# EAGLE library part DX07S024XJ1R1100 (library MCU_Print_V2)
USB connector HYBRID, SMD/THRU hole STD MNT, USB type C, Receptacle, female, 24 Contact, JAE Electronics, Mouser : 656-DX07S024SJ1R1100
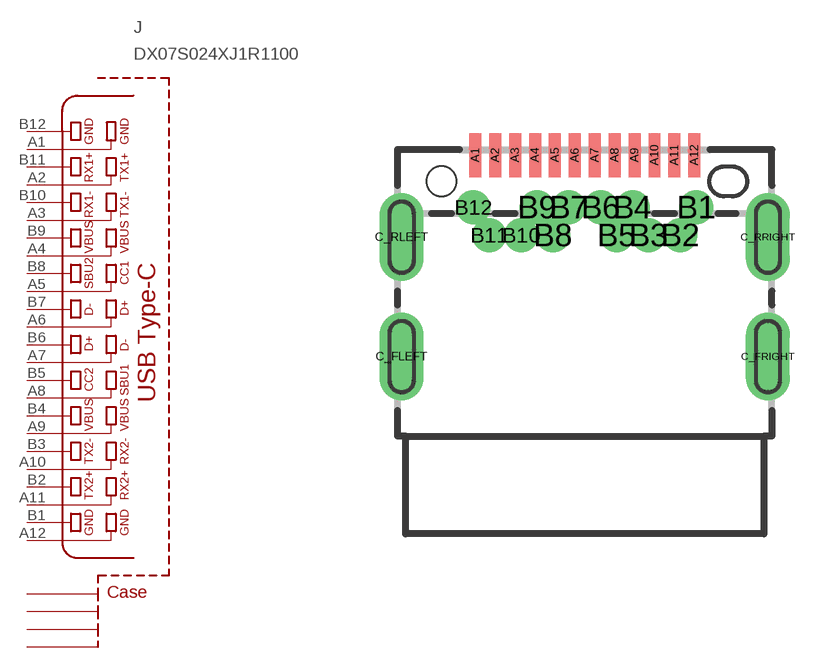
[diagram p2: symbol with the pads of USB-TYPE_C_JAE; footprint USB-TYPE_C_JAE]

Designator prefix J

## DX07S024XJ1R1100 (BRAND: JAE Electronics; CONTACT-MATERIAL: Copper Alloy; CURRENT-RATING: 5A; DIGI-KEY: 670-2848-1-ND; INSULATION-RESISTANCE: 100 MOhms; MANUFACTURER: JAE Electronics; MFR_NO: DX07S024XJ1R1100; MOUNTING-ANGLE: Right angle; MOUSER: 656-DX07S024SJ1R1100; NUMBER_CONTACT: 24; NUMBER_PORT: 1; OPERATING-TEMPERATURE: -30°C ~ 80°C; PRODUCT: USB Type C Connectors; SHELL-PLATING: Nickel; SPECIFICATIONS: USB 3.1 (USB 3.1 Gen 2, Superspeed+); VOLTAGE-RATING: 20V)  [USB-TYPE_C_JAE]
A1  A1  pas
A2  A2  pas
A3  A3  pas
A4  A4  pas
A5  A5  pas
A6  A6  pas
A7  A7  pas
A8  A8  pas
A9  A9  pas
A10  A10  pas
A11  A11  pas
A12  A12  pas
B1  B1  pas
B2  B2  pas
B3  B3  pas
B4  B4  pas
B5  B5  pas
B6  B6  pas
B7  B7  pas
B8  B8  pas
B9  B9  pas
B10  B10  pas
B11  B11  pas
B12  B12  pas
C_FLEFT  S3  pas
C_FRIGHT  S1  pas
C_RLEFT  S4  pas
C_RRIGHT  S2  pas

## Footprint USB-TYPE_C_JAE (pad centres in mm)
USB Type C, Receptacle, female, 24 Contact, JAE Electronics ( l x p x h => 9,4 x 9,65 x 3,34)
smd 0.3 x 1.1: A1 0.85,0.66; A2 1.35,0.66; A3 1.85,0.66; A4 2.35,0.66; A5 2.85,0.66; A6 3.35,0.66; A7 3.85,0.66; A8 4.35,0.66; A9 4.85,0.66; A10 5.35,0.66; A11 5.85,0.66; A12 6.35,0.66
drill 0.35 pad 0.65: B1 6.4,-0.65; B2 6,-1.35; B3 5.2,-1.35; B4 4.8,-0.65; B5 4.4,-1.35; B6 4,-0.65; B7 3.2,-0.65; B8 2.8,-1.35; B9 2.4,-0.65; B10 2,-1.35; B11 1.2,-1.35; B12 0.8,-0.65
drill 0.6 pad 1.1 long: C_FLEFT -1,-4.4; C_FRIGHT 8.2,-4.4; C_RLEFT -1,-1.4; C_RRIGHT 8.2,-1.4
hole 0.75 at 0,0